# Altium footprint library IC_Texas_Instruments_ULN2803ADWR_eec_0.PcbLib: 1 footprints
Each footprint in its own frame and in the unit in brackets; x right, y up, seen from the top. Pads: shape width x height; smd on the part's side, far side on the other; paste and mask are expansions set on the pad; w line width, h text height; cw(c..) or ccw(c..) is an arc to the next point about the centre after c.
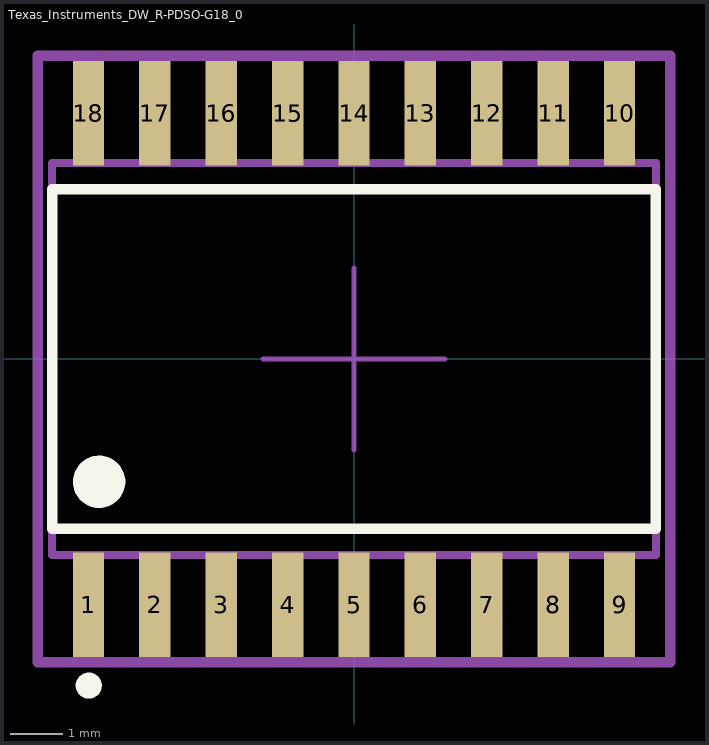
[diagram p0: the footprint, top view; thin cyan lines are the x and y axes]

## Texas_Instruments_DW_R-PDSO-G18_0 [mm]
pads (18):
  rect 0.6x2 smd paste-1000 mask+0: 1(-5.08,-4.7) 2(-3.81,-4.7) 3(-2.54,-4.7) 4(-1.27,-4.7) 5(0,-4.7) 6(1.27,-4.7) 7(2.54,-4.7) 8(3.81,-4.7) 9(5.08,-4.7) 10(5.08,4.7) 11(3.81,4.7) 12(2.54,4.7) 13(1.27,4.7) 14(0,4.7) 15(-1.27,4.7) 16(-2.54,4.7) 17(-3.81,4.7) 18(-5.08,4.7)
Top Overlay:
  circle w0.25: c-5.075,-6.25 r0.125
  circle w0.5: c-4.875,-2.35 r0.25
  lines w0.2: -5.775,-3.25 5.775,-3.25 5.775,3.25 -5.775,3.25 -5.775,-3.25
Top Paste:
  rectangle: 4.805,3.725 5.355,5.675
  rectangle: 3.535,3.725 4.085,5.675
  rectangle: 2.265,3.725 2.815,5.675
  rectangle: 0.995,3.725 1.545,5.675
  rectangle: -0.275,3.725 0.275,5.675
  rectangle: -1.545,3.725 -0.995,5.675
  rectangle: -2.815,3.725 -2.265,5.675
  rectangle: -4.085,3.725 -3.535,5.675
  rectangle: -5.355,3.725 -4.805,5.675
  rectangle: 4.805,-5.675 5.355,-3.725
  rectangle: 3.535,-5.675 4.085,-3.725
  rectangle: 2.265,-5.675 2.815,-3.725
  rectangle: 0.995,-5.675 1.545,-3.725
  rectangle: -0.275,-5.675 0.275,-3.725
  rectangle: -1.545,-5.675 -0.995,-3.725
  rectangle: -2.815,-5.675 -2.265,-3.725
  rectangle: -4.085,-5.675 -3.535,-3.725
  rectangle: -5.355,-5.675 -4.805,-3.725
Mechanical 10:
  lines w0.2: -6.05,-5.8 6.05,-5.8 6.05,5.8 -6.05,5.8 -6.05,-5.8
  text ".Designator" at 0,0 h1
Mechanical 12:
  lines w0.15: -5.775,-3.75 5.775,-3.75 5.775,3.75 -5.775,3.75 -5.775,-3.75
Mechanical 15:
  lines w0.1: -1.74,0 1.74,0 ; 0,-1.74 0,1.74
  lines w0.2: -6.05,-5.8 6.05,-5.8 6.05,5.8 -6.05,5.8 -6.05,-5.8
3D body "IC_Texas_Instruments_ULN2803ADWR_eec.STEP": height 0.25, standoff 0, extent -6.05,-5.8 6.05,5.8